# EAGLE library part WIZ812MJ (library WIZnet)
WIZnet's WIZ812MJ Module
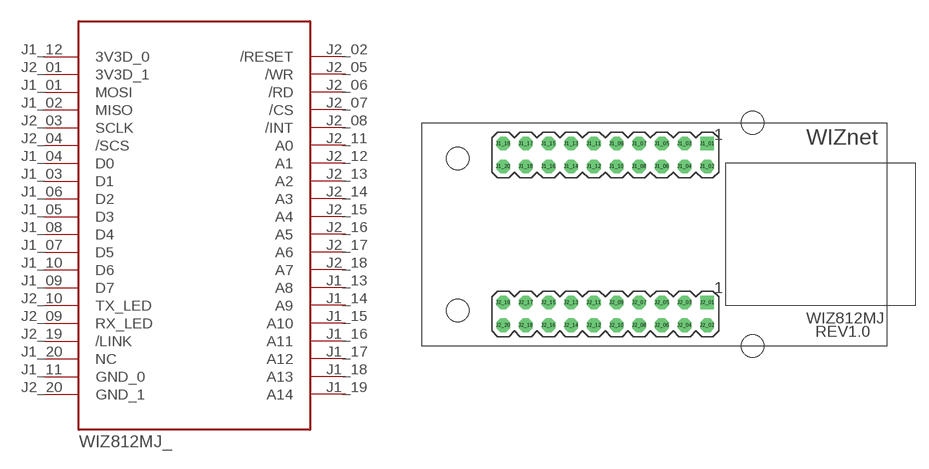
[diagram p11: symbol with the pads of WIZ812MJ; footprint WIZ812MJ]

Designator prefix WIZ812MJ_

## WIZ812MJ  [WIZ812MJ]
J1_01  MOSI  in
J1_02  MISO  out
J1_03  D1
J1_04  D0
J1_05  D3
J1_06  D2
J1_07  D5
J1_08  D4
J1_09  D7
J1_10  D6
J1_11  GND_0  pwr
J1_12  3V3D_0  pwr
J1_13  A8  in
J1_14  A9  in
J1_15  A10  in
J1_16  A11  in
J1_17  A12  in
J1_18  A13  in
J1_19  A14  in
J1_20  NC  nc
J2_01  3V3D_1  pwr
J2_02  /RESET  in
J2_03  SCLK  in
J2_04  /SCS  in
J2_05  /WR  in
J2_06  /RD  in
J2_07  /CS  in
J2_08  /INT  out
J2_09  RX_LED  out
J2_10  TX_LED  out
J2_11  A0  in
J2_12  A1  in
J2_13  A2  in
J2_14  A3  in
J2_15  A4  in
J2_16  A5  in
J2_17  A6  in
J2_18  A7  in
J2_19  /LINK  out
J2_20  GND_1  pwr

## Footprint WIZ812MJ (pad centres in mm)
drill 1.016 square: J1_01 11.43,10.16; J2_01 11.43,-7.62
drill 1.016 octagon: J1_02 11.43,7.62; J1_03 8.89,10.16; J1_04 8.89,7.62; J1_05 6.35,10.16; J1_06 6.35,7.62; J1_07 3.81,10.16; J1_08 3.81,7.62; J1_09 1.27,10.16; J1_10 1.27,7.62; J1_11 -1.27,10.16; J1_12 -1.27,7.62; J1_13 -3.81,10.16; J1_14 -3.81,7.62; J1_15 -6.35,10.16; J1_16 -6.35,7.62; J1_17 -8.89,10.16; J1_18 -8.89,7.62; J1_19 -11.43,10.16; J1_20 -11.43,7.62; J2_02 11.43,-10.16; J2_03 8.89,-7.62; J2_04 8.89,-10.16; J2_05 6.35,-7.62; J2_06 6.35,-10.16; J2_07 3.81,-7.62; J2_08 3.81,-10.16; J2_09 1.27,-7.62; J2_10 1.27,-10.16; J2_11 -1.27,-7.62; J2_12 -1.27,-10.16; J2_13 -3.81,-7.62; J2_14 -3.81,-10.16; J2_15 -6.35,-7.62; J2_16 -6.35,-10.16; J2_17 -8.89,-7.62; J2_18 -8.89,-10.16; J2_19 -11.43,-7.62; J2_20 -11.43,-10.16
hole 2.54 at -16.5,-8.5
hole 2.54 at -16.5,8.5
hole 2.54 at 16.5,12.5
hole 2.54 at 16.5,-12.5